# EAGLE library part AD5245 (library Chadgra-Resistor)
AD5245 256-Position I2C-Compaitble Digital Potentiometer 5k, 10k, 50k, 100k
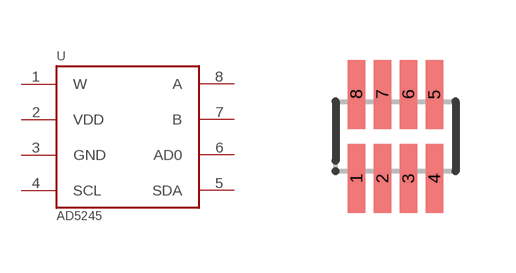
[diagram p0: symbol with the pads of SOT23-8; footprint SOT23-8]

Designator prefix -

## AD5245  [SOT23-8]
1  W
2  VDD
3  GND
4  SCL
5  SDA
6  AD0
7  B
8  A

## Footprint SOT23-8 (pad centres in mm)
smd 0.445 x 1.727: 1 -0.975,-1.054; 2 -0.325,-1.054; 3 0.325,-1.054; 4 0.975,-1.054; 5 0.975,1.054; 6 0.325,1.054; 7 -0.325,1.054; 8 -0.975,1.054